# Altium schematic symbol library AP3012KTR-G1.Schlib: 1 symbol
Pins are listed as number, name and electrical type; pins without a type are passive.

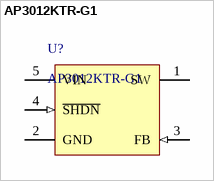
[diagram p0: symbol AP3012KTR-G1]

## AP3012KTR-G1
designator U?
Boost Switching Regulator IC Positive Adjustable 1.25V 1 Output 500mA (Switch) SC-74A, SOT-753
pins: 1 SW (oc), 2 GND (power), 3 FB (in), 4 ~{SHDN} (in), 5 VIN (power)